# EAGLE library part FC6946010R (library TRANSISTORs)
Dual MOSFET, Dual N Channel, 100 mA, 60 V, 6 ohm, 4 V, 1.2 V
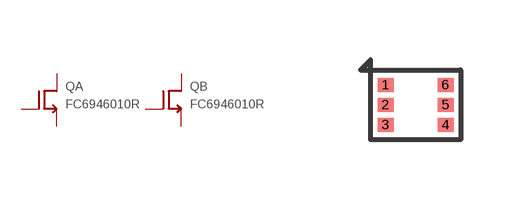
[diagram p0: symbol with the pads of SOT666; footprint SOT666]

Designator prefix Q; gates A=N_FET B=N_FET

## FC6946010R (FARNELL: 2284060; PRICE_PER: 0.0279; VALUE: FC6946010R)  [SOT666]
1  A:S
2  A:G
3  B:D
4  B:S
5  B:G
6  A:D

## Footprint SOT666 (pad centres in mm)
smd 0.4 x 0.35: 1 -0.75,0.5; 2 -0.75,0; 3 -0.75,-0.5; 4 0.75,-0.5; 5 0.75,0; 6 0.75,0.5